# Altium integrated library Celestial Library.IntLib: 629 symbols (part 4 of 28)

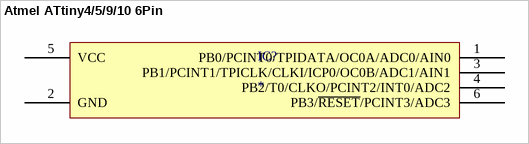
[diagram p69: symbol Atmel ATtiny4/5/9/10 6Pin]

## Atmel ATtiny4/5/9/10 6Pin
designator IC?
Atmel 8-bit AVR Microcontroller with 512/1024  Bytes In-System Programmable Flash
pins: 1 PB0/PCINT0/TPIDATA/OC0A/ADC0/AIN0, 2 GND, 3 PB1/PCINT1/TPICLK/CLKI/ICP0/OC0B/ADC1/AIN1, 4 PB2/T0/CLKO/PCINT2/INT0/ADC2, 5 VCC, 6 PB3/~{RESET}/PCINT3/ADC3


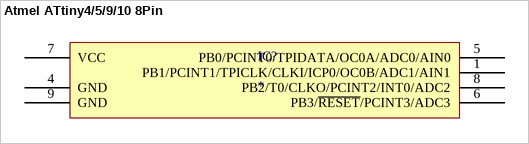
[diagram p70: symbol Atmel ATtiny4/5/9/10 8Pin]

## Atmel ATtiny4/5/9/10 8Pin
designator IC?
Atmel 8-bit AVR Microcontroller with 512/1024  Bytes In-System Programmable Flash
pins: 1 PB1/PCINT1/TPICLK/CLKI/ICP0/OC0B/ADC1/AIN1, 4 GND, 5 PB0/PCINT0/TPIDATA/OC0A/ADC0/AIN0, 6 PB3/~{RESET}/PCINT3/ADC3, 7 VCC, 8 PB2/T0/CLKO/PCINT2/INT0/ADC2, 9 GND


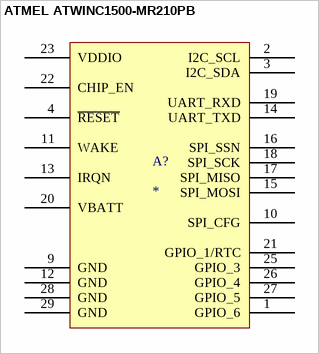
[diagram p71: symbol ATMEL ATWINC1500-MR210PB]

## ATMEL ATWINC1500-MR210PB
designator A?
pins: 1 GPIO_6, 2 I2C_SCL, 3 I2C_SDA, 4 ~{RESET}, 9 GND, 10 SPI_CFG, 11 WAKE, 12 GND, 13 IRQN, 14 UART_TXD, 15 SPI_MOSI, 16 SPI_SSN, 17 SPI_MISO, 18 SPI_SCK, 19 UART_RXD, 20 VBATT, 21 GPIO_1/RTC, 22 CHIP_EN, 23 VDDIO, 25 GPIO_3, 26 GPIO_4, 27 GPIO_5, 28 GND, 29 GND


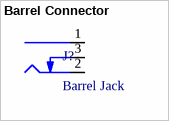
[diagram p72: symbol Barrel Connector]

## Barrel Connector
designator J?, comment Barrel Jack
pins: 1 Centre, 2 Outer, 3 SW


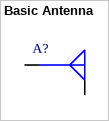
[diagram p73: symbol Basic Antenna]

## Basic Antenna
designator A?
pins: G, S


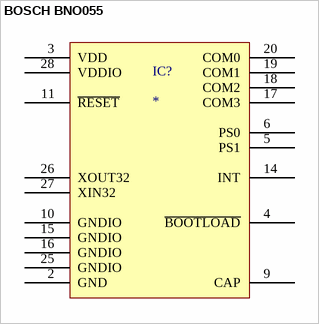
[diagram p74: symbol BOSCH BNO055]

## BOSCH BNO055
designator IC?
pins: 2 GND, 3 VDD, 4 ~{BOOTL}~{OAD}, 5 PS1, 6 PS0, 9 CAP, 10 GNDIO, 11 ~{RESET}, 14 INT, 15 GNDIO, 16 GNDIO, 17 COM3, 18 COM2, 19 COM1, 20 COM0, 25 GNDIO, 26 XOUT32, 27 XIN32, 28 VDDIO


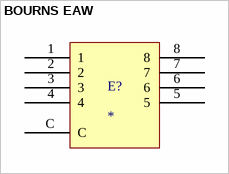
[diagram p75: symbol BOURNS EAW]

## BOURNS EAW
designator E?
pins: 1, 2, 3, 4, 5, 6, 7, 8, C


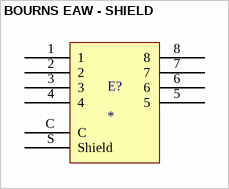
[diagram p76: symbol BOURNS EAW - SHIELD]

## BOURNS EAW - SHIELD
designator E?
pins: 1, 2, 3, 4, 5, 6, 7, 8, C, S Shield


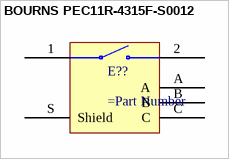
[diagram p77: symbol BOURNS PEC11R-4315F-S0012]

## BOURNS PEC11R-4315F-S0012
designator E??
ROTARY ENCODER MECHANICAL 12PPR; Manufacturer 1: Bourns; Manufacturer Part Number 1: PEC11R-4315F-S0012; Output Type: Quadrature,Incremental; Built in Switch: Yes; Number of Channels: 2; Pulses per Revolution: 12; Capacitance: 4315F; Supplier 1: Digi-Key; Stock 1: 453; Pricing 1: 1=1.91000, 10=1.68200, 25=1.50800, 50=1.45000, 100=1.39200, 250=1.33400, 500=1.10200, 1000=1.04400, 5000=0.87000 (USD); RoHS: Yes; Mount: Through Hole,Panel,PCB; Min Operating Temperature: -30°C; Max Operating Temperature: 70°C; Termination: PC Pin; Packaging: Bulk; Package Quantity: 75; Encoder Type: Mechanical; Detent: Yes; Orientation: Vertical; Length: 21.5mm; Height: 13.4mm; Width: 12.5mm; ComponentLink1URL: http://www.mouser.com/ds/2/54/EC11R-777457.pdf?src-supplier=Mouser; ComponentLink1Description: Datasheet; ComponentLink2URL: https://www.digikey.com/products/en?keywords=PEC11R-4315F-S0012; ComponentLink2Description: DigiKey  Link
pins: 1, 2, A, B, C, S Shield


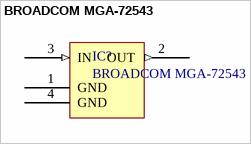
[diagram p78: symbol BROADCOM MGA-72543]

## BROADCOM MGA-72543
designator IC?
PHEMT* Low Noise Amplifi er with Bypass Switch
pins: 1 GND "Desc1", 2 OUT (out) "Desc1", 3 IN (in) "Desc1", 4 GND "Desc1"


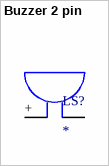
[diagram p79: symbol Buzzer 2 pin]

## Buzzer 2 pin
designator LS?
pins: +, -


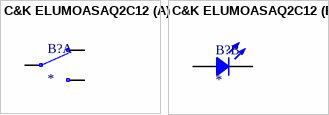
[diagram p80: symbol C&K ELUMOASAQ2C12]

## C&K ELUMOASAQ2C12
designator B?
part A pins: 2 NO, 3 C, 4 NC
part B pins: 1 C, 5 A


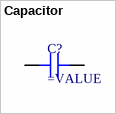
[diagram p81: symbol Capacitor]

## Capacitor
designator C?
SMT Capacitor
pins: 1, 2


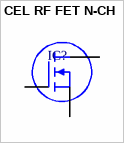
[diagram p82: symbol CEL RF FET N-CH]

## CEL RF FET N-CH
designator IC?
pins: 1 S, 2 D, 3 S, 4 G


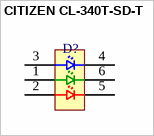
[diagram p83: symbol CITIZEN CL-340T-SD-T]

## CITIZEN CL-340T-SD-T
designator D?
pins: 1 A2, 2 A3, 3 A1, 4 C1, 5 C3, 6 C2


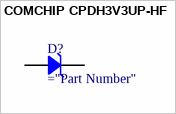
[diagram p84: symbol COMCHIP CPDH3V3UP-HF]

## COMCHIP CPDH3V3UP-HF
designator D?
Rectifier Diode
pins: 1 A, 2 K


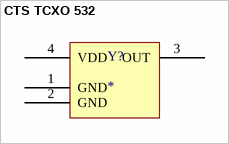
[diagram p85: symbol CTS TCXO 532]

## CTS TCXO 532
designator Y?
SMD TCXO
pins: 1 GND, 2 GND, 3 OUT, 4 VDD


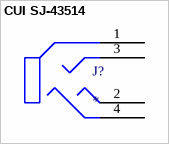
[diagram p86: symbol CUI SJ-43514]

## CUI SJ-43514
designator J?
pins: 1 SLEEVE, 2 TIP, 3 RING 1, 4 RING 2


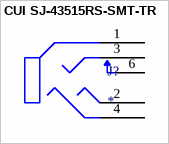
[diagram p87: symbol CUI SJ-43515RS-SMT-TR]

## CUI SJ-43515RS-SMT-TR
designator J?
pins: 1 SLEEVE, 2 TIP, 3 RING 1, 4 RING 2, 6 TIP


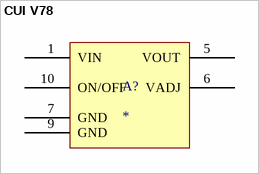
[diagram p88: symbol CUI V78]

## CUI V78
designator A?
pins: 1 VIN, 5 VOUT, 6 VADJ, 7 GND, 9 GND, 10 ON/OFF


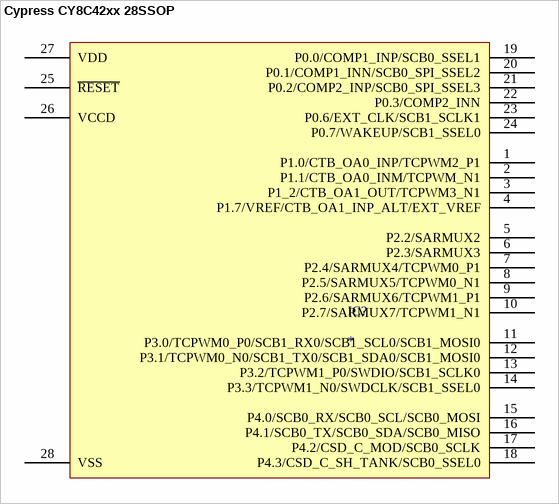
[diagram p89: symbol Cypress CY8C42xx 28SSOP]

## Cypress CY8C42xx 28SSOP
designator IC?
pins: 1 P1.0/CTB_OA0_INP/TCPWM2_P1, 2 P1.1/CTB_OA0_INM/TCPWM_N1, 3 P1_2/CTB_OA1_OUT/TCPWM3_N1, 4 P1.7/VREF/CTB_OA1_INP_ALT/EXT_VREF, 5 P2.2/SARMUX2, 6 P2.3/SARMUX3, 7 P2.4/SARMUX4/TCPWM0_P1, 8 P2.5/SARMUX5/TCPWM0_N1, 9 P2.6/SARMUX6/TCPWM1_P1, 10 P2.7/SARMUX7/TCPWM1_N1, 11 P3.0/TCPWM0_P0/SCB1_RX0/SCB1_SCL0/SCB1_MOSI0, 12 P3.1/TCPWM0_N0/SCB1_TX0/SCB1_SDA0/SCB1_MOSI0, 13 P3.2/TCPWM1_P0/SWDIO/SCB1_SCLK0, 14 P3.3/TCPWM1_N0/SWDCLK/SCB1_SSEL0, 15 P4.0/SCB0_RX/SCB0_SCL/SCB0_MOSI, 16 P4.1/SCB0_TX/SCB0_SDA/SCB0_MISO, 17 P4.2/CSD_C_MOD/SCB0_SCLK, 18 P4.3/CSD_C_SH_TANK/SCB0_SSEL0, 19 P0.0/COMP1_INP/SCB0_SSEL1, 20 P0.1/COMP1_INN/SCB0_SPI_SSEL2, 21 P0.2/COMP2_INP/SCB0_SPI_SSEL3, 22 P0.3/COMP2_INN, 23 P0.6/EXT_CLK/SCB1_SCLK1, 24 P0.7/WAKEUP/SCB1_SSEL0, 25 ~{RESET}, 26 VCCD, 27 VDD, 28 VSS


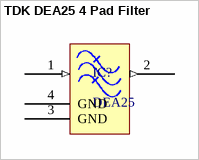
[diagram p90: symbol TDK DEA25 4 Pad Filter]

## TDK DEA25 4 Pad Filter
designator IC?, comment DEA25
Multilayer chip band pass filter
pins: 1 IN (in) "Desc1", 2 OUT (out) "Desc1", 3 GND "Desc1", 4 GND "Desc1"


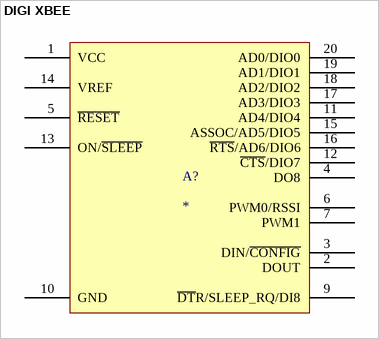
[diagram p91: symbol DIGI XBEE]

## DIGI XBEE
designator A?
pins: 1 VCC, 2 DOUT, 3 DIN/~{CONFIG}, 4 DO8, 5 ~{RESET}, 6 PWM0/RSSI, 7 PWM1, 9 ~{DT}R/SLEEP_RQ/DI8, 10 GND, 11 AD4/DIO4, 12 ~{CTS}/DIO7, 13 ON/~{SLEEP}, 14 VREF, 15 ASSOC/AD5/DIO5, 16 ~{RTS}/AD6/DIO6, 17 AD3/DIO3, 18 AD2/DIO2, 19 AD1/DIO1, 20 AD0/DIO0
